# Altium schematic symbol library BLDC_4.SchLib: 21 symbols
Pins are listed as number, name and electrical type; pins without a type are passive.

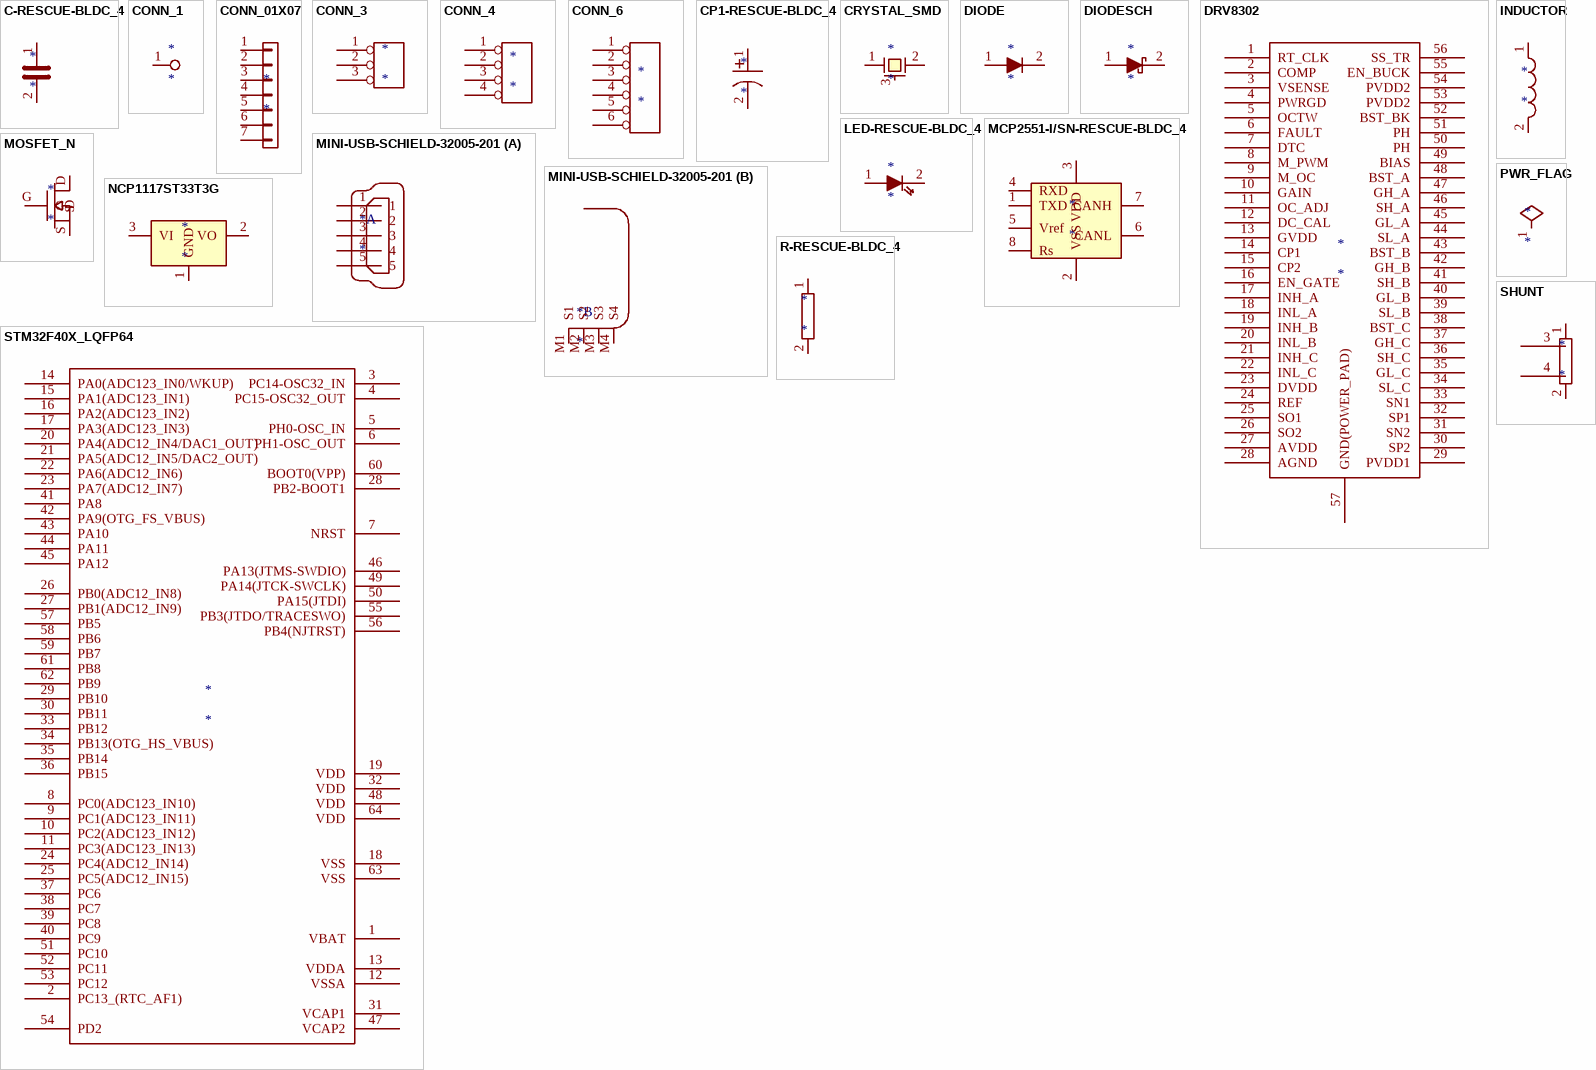
[diagram p0: symbols C-RESCUE-BLDC_4 to STM32F40X_LQFP64]

## C-RESCUE-BLDC_4
designator *
pins: 1, 2

## CONN_1
designator *
pins: 1

## CONN_01X07
designator *
pins: 1 P1, 2 P2, 3 P3, 4 P4, 5 P5, 6 P6, 7 P7

## CONN_3
designator *
pins: 1 P1, 2 PM, 3 P3

## CONN_4
designator *
pins: 1 P1, 2 P2, 3 P3, 4 P4

## CONN_6
designator *
pins: 1, 2, 3, 4, 5, 6

## CP1-RESCUE-BLDC_4
designator *
pins: 1, 2
text: +

## CRYSTAL_SMD
designator *
pins: 1, 2, 3 case

## DIODE
designator *
pins: 1 A, 2 K

## DIODESCH
designator *
pins: 1 A, 2 K

## DRV8302
designator *
pins: 1 RT_CLK, 2 COMP, 3 VSENSE, 4 PWRGD, 5 OCTW, 6 FAULT, 7 DTC, 8 M_PWM, 9 M_OC, 10 GAIN, 11 OC_ADJ, 12 DC_CAL, 13 GVDD, 14 CP1, 15 CP2, 16 EN_GATE, 17 INH_A, 18 INL_A, 19 INH_B, 20 INL_B, 21 INH_C, 22 INL_C, 23 DVDD, 24 REF, 25 SO1, 26 SO2, 27 AVDD, 28 AGND, 29 PVDD1, 30 SP2, 31 SN2, 32 SP1, 33 SN1, 34 SL_C, 35 GL_C, 36 SH_C, 37 GH_C, 38 BST_C, 39 SL_B, 40 GL_B, 41 SH_B, 42 GH_B, 43 BST_B, 44 SL_A, 45 GL_A, 46 SH_A, 47 GH_A, 48 BST_A, 49 BIAS, 50 PH, 51 PH, 52 BST_BK, 53 PVDD2, 54 PVDD2, 55 EN_BUCK, 56 SS_TR, 57 GND(POWER_PAD)

## INDUCTOR
designator *
pins: 1, 2

## LED-RESCUE-BLDC_4
designator *
pins: 1 A, 2 K

## MCP2551-I/SN-RESCUE-BLDC_4
designator *
pins: 1 TXD, 2 VSS, 3 VDD, 4 RXD, 5 Vref, 6 CANL, 7 CANH, 8 Rs

## MINI-USB-SCHIELD-32005-201
designator *
part A pins: 1, 2, 3, 4, 5
part B pins: M1 S1, M2 S2, M3 S3, M4 S4

## MOSFET_N
designator *
pins: D, G, S

## NCP1117ST33T3G
designator *
pins: 1 GND, 2 VO, 3 VI

## PWR_FLAG
designator *  (graphical)
pins: 1 pwr

## R-RESCUE-BLDC_4
designator *
pins: 1, 2

## SHUNT
designator *
pins: 1, 2, 3, 4

## STM32F40X_LQFP64
designator *
pins: 1 VBAT, 2 PC13_(RTC_AF1), 3 PC14-OSC32_IN, 4 PC15-OSC32_OUT, 5 PH0-OSC_IN, 6 PH1-OSC_OUT, 7 NRST, 8 PC0(ADC123_IN10), 9 PC1(ADC123_IN11), 10 PC2(ADC123_IN12), 11 PC3(ADC123_IN13), 12 VSSA, 13 VDDA, 14 PA0(ADC123_IN0/WKUP), 15 PA1(ADC123_IN1), 16 PA2(ADC123_IN2), 17 PA3(ADC123_IN3), 18 VSS, 19 VDD, 20 PA4(ADC12_IN4/DAC1_OUT), 21 PA5(ADC12_IN5/DAC2_OUT), 22 PA6(ADC12_IN6), 23 PA7(ADC12_IN7), 24 PC4(ADC12_IN14), 25 PC5(ADC12_IN15), 26 PB0(ADC12_IN8), 27 PB1(ADC12_IN9), 28 PB2-BOOT1, 29 PB10, 30 PB11, 31 VCAP1, 32 VDD, 33 PB12, 34 PB13(OTG_HS_VBUS), 35 PB14, 36 PB15, 37 PC6, 38 PC7, 39 PC8, 40 PC9, 41 PA8, 42 PA9(OTG_FS_VBUS), 43 PA10, 44 PA11, 45 PA12, 46 PA13(JTMS-SWDIO), 47 VCAP2, 48 VDD, 49 PA14(JTCK-SWCLK), 50 PA15(JTDI), 51 PC10, 52 PC11, 53 PC12, 54 PD2, 55 PB3(JTDO/TRACESWO), 56 PB4(NJTRST), 57 PB5, 58 PB6, 59 PB7, 60 BOOT0(VPP), 61 PB8, 62 PB9, 63 VSS, 64 VDD